# Altium schematic symbol library SOLDERBRIDGE_CLOSED.Schlib: 1 symbol
Pins are listed as number, name and electrical type; pins without a type are passive.

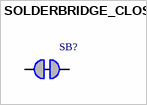
[diagram p0: symbol SOLDERBRIDGE_CLOSED]

## SOLDERBRIDGE_CLOSED
designator SB?  (net tie)
pins: 1, 2